# Altium footprint library PCB_Library.PcbLib: 26 footprints (part 2 of 2)
Each footprint in its own frame and in the unit in brackets; x right, y up, seen from the top. Pads: shape width x height; smd on the part's side, far side on the other; paste and mask are expansions set on the pad; w line width, h text height; cw(c..) or ccw(c..) is an arc to the next point about the centre after c.
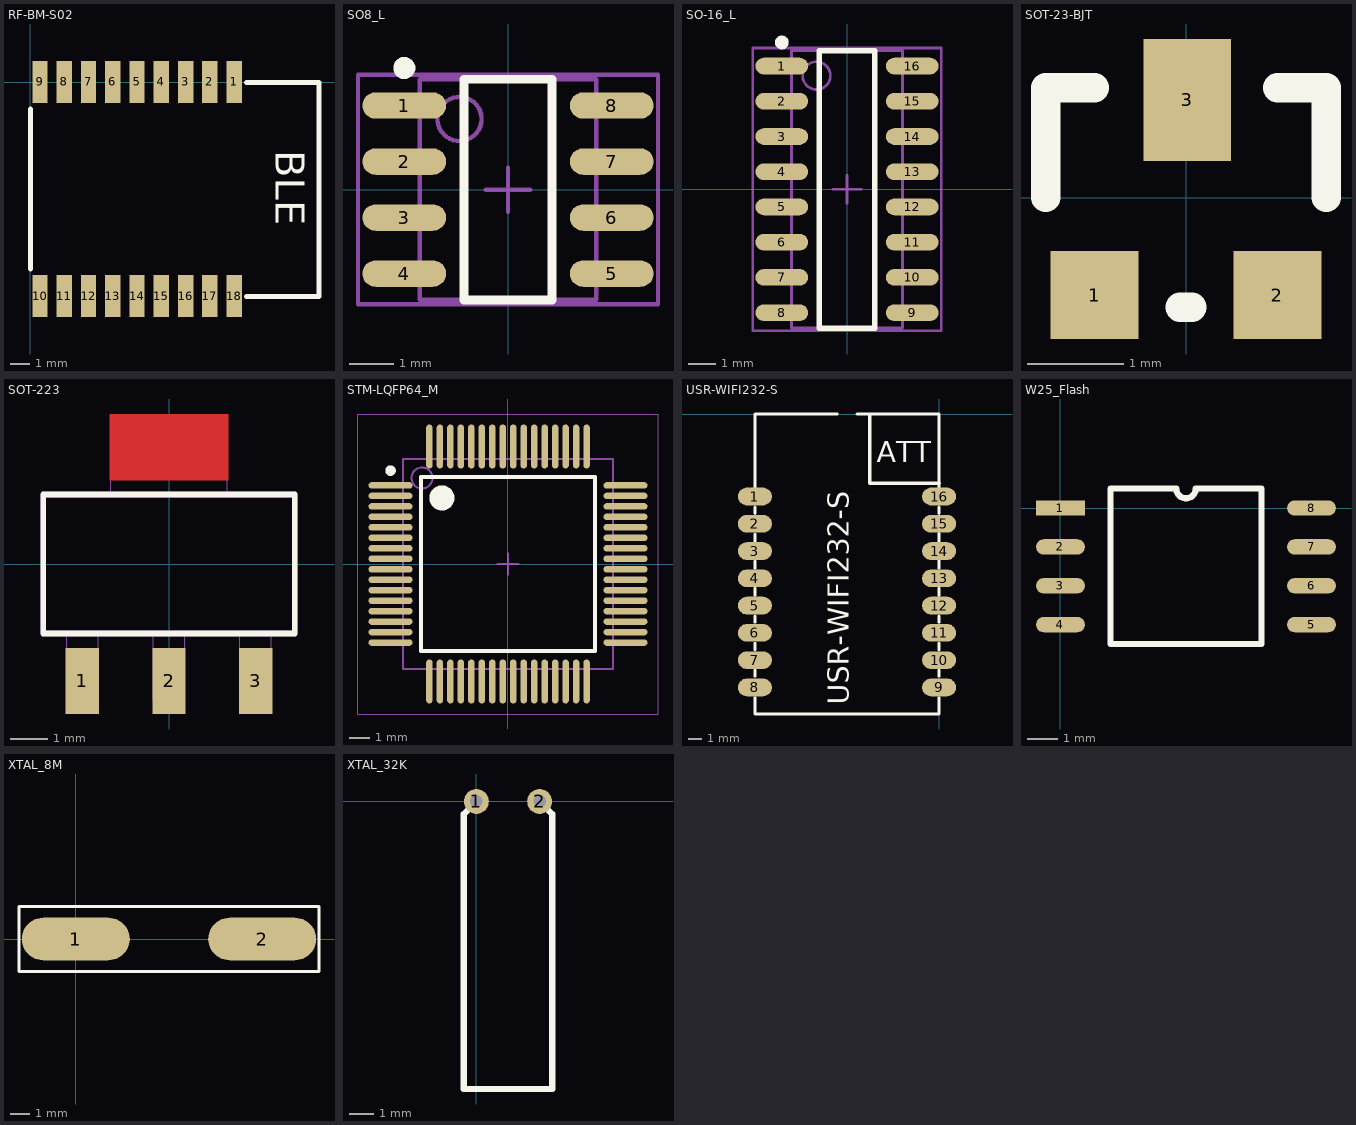
[diagram p1: the footprints below, top view; thin cyan lines are the x and y axes]

## RF-BM-S02 [mm]
pads (18):
  rect 0.8x2.2 smd: 1(10.66,0.024) 2(9.39,0.024) 3(8.12,0.024) 4(6.85,0.024) 5(5.58,0.024) 6(4.31,0.024) 7(3.04,0.024) 8(1.77,0.024) 9(0.5,0.024) 10(0.5,-11.176) 11(1.77,-11.176) 12(3.04,-11.176) 13(4.31,-11.176) 14(5.58,-11.176) 15(6.85,-11.176) 16(8.12,-11.176) 17(9.39,-11.176) 18(10.66,-11.176)
Top Overlay:
  lines w0.254: 0,-9.779 0,-1.397 ; 11.303,-11.2 15.1,-11.2 15.1,0 11.303,0
  text "BLE" at 12.827,-3.556 h1.52

## SO8_L [mm] "SOIC, 8-Leads, Body 4.9x3.9mm, Pitch 1.27mm, IPC High Density"
height 1.75
pads (8):
  oval 1.9x0.6 smd: 1(-2.35,1.905) 2(-2.35,0.635) 3(-2.35,-0.635) 4(-2.35,-1.905) 5(2.35,-1.905) 6(2.35,-0.635) 7(2.35,0.635) 8(2.35,1.905)
Top Overlay:
  circle w0.25: c-2.35,2.755 r0.125
  lines w0.2: -1,-2.5 1,-2.5 1,2.5 -1,2.5 -1,-2.5
Mechanical 13:
  circle w0.1: c-1.1,1.6 r0.5
  lines w0.1: -2,-2.5 2,-2.5 2,2.5 -2,2.5 -2,-2.5
Mechanical 15:
  lines w0.1: -0.5,0 0.5,0 ; 0,-0.5 0,0.5 ; -3.4,-2.6 3.4,-2.6 3.4,2.6 -3.4,2.6 -3.4,-2.6
3D body: height 1.75, standoff 0, extent -2,-2.5 2,2.5

## SO-16_L [mm] "SOIC, 16-Leads, Body 9.9x3.9mm, Pitch 1.27mm, IPC High Density"
height 1.75
pads (16):
  oval 1.9x0.6 smd: 1(-2.35,4.445) 2(-2.35,3.175) 3(-2.35,1.905) 4(-2.35,0.635) 5(-2.35,-0.635) 6(-2.35,-1.905) 7(-2.35,-3.175) 8(-2.35,-4.445) 9(2.35,-4.445) 10(2.35,-3.175) 11(2.35,-1.905) 12(2.35,-0.635) 13(2.35,0.635) 14(2.35,1.905) 15(2.35,3.175) 16(2.35,4.445)
Top Overlay:
  circle w0.25: c-2.35,5.295 r0.125
  lines w0.2: -1,-5 1,-5 1,5 -1,5 -1,-5
Mechanical 13:
  circle w0.1: c-1.1,4.1 r0.5
  lines w0.1: -2,-5 2,-5 2,5 -2,5 -2,-5
Mechanical 15:
  lines w0.1: -0.5,0 0.5,0 ; 0,-0.5 0,0.5 ; -3.4,-5.1 3.4,-5.1 3.4,5.1 -3.4,5.1 -3.4,-5.1
3D body: height 1.75, standoff 0, extent -2,-5 2,5

## SOT-23-BJT [mil]
pads (3):
  rect 36x36 smd: 1(-37.5,-40) 2(37.5,-40)
  rect 36x50 smd: 3(0.5,40)
Top Overlay:
  lines w12: -57.5,0 -57.5,45 -37.5,45 ; -2.5,-45 2.5,-45 ; 37.5,45 57.5,45 57.5,0

## SOT-223 [mil]
height 67
pads (3):
  rect 35x69.5 smd: 1(-91,-122.75) 2(0,-122.75) 3(91,-122.75)
Top Layer:
  region: 62,88 62,157.5 -62,157.5 -62,88
Top Overlay:
  lines w6: -132,-73 -132,73 132,73 132,-73 -132,-73
Top Paste:
  region: 62,88 62,157.5 -62,157.5 -62,88
Mechanical 1:
  lines w0: -132,-73 -132,73 132,73 132,-73 -132,-73 ; -107.5,-143.5 -74.5,-143.5 -74.5,-73 -107.5,-73 -107.5,-143.5 ; -61,73 -61,143.5 61,143.5 61,73 -61,73 ; -16.5,-143.5 16.5,-143.5 16.5,-73 -16.5,-73 -16.5,-143.5 ; 74.5,-143.5 107.5,-143.5 107.5,-73 74.5,-73 74.5,-143.5
  lines w6: -132,-73 -132,73 132,73 132,-73 -132,-73

## STM-LQFP64_M [mm] "Thin QFP, 64-Leads, Body 10x10mm, Pitch 0.5mm, IPC Low Density"
height 1.6
pads (64):
  oval 2.1x0.3 smd: 1(-5.6,3.75) 2(-5.6,3.25) 3(-5.6,2.75) 4(-5.6,2.25) 5(-5.6,1.75) 6(-5.6,1.25) 7(-5.6,0.75) 8(-5.6,0.25) 9(-5.6,-0.25) 10(-5.6,-0.75) 11(-5.6,-1.25) 12(-5.6,-1.75) 13(-5.6,-2.25) 14(-5.6,-2.75) 15(-5.6,-3.25) 16(-5.6,-3.75) 33(5.6,-3.75) 34(5.6,-3.25) 35(5.6,-2.75) 36(5.6,-2.25) 37(5.6,-1.75) 38(5.6,-1.25) 39(5.6,-0.75) 40(5.6,-0.25) 41(5.6,0.25) 42(5.6,0.75) 43(5.6,1.25) 44(5.6,1.75) 45(5.6,2.25) 46(5.6,2.75) 47(5.6,3.25) 48(5.6,3.75)
  oval 0.3x2.1 smd: 17(-3.75,-5.6) 18(-3.25,-5.6) 19(-2.75,-5.6) 20(-2.25,-5.6) 21(-1.75,-5.6) 22(-1.25,-5.6) 23(-0.75,-5.6) 24(-0.25,-5.6) 25(0.25,-5.6) 26(0.75,-5.6) 27(1.25,-5.6) 28(1.75,-5.6) 29(2.25,-5.6) 30(2.75,-5.6) 31(3.25,-5.6) 32(3.75,-5.6) 49(3.75,5.6) 50(3.25,5.6) 51(2.75,5.6) 52(2.25,5.6) 53(1.75,5.6) 54(1.25,5.6) 55(0.75,5.6) 56(0.25,5.6) 57(-0.25,5.6) 58(-0.75,5.6) 59(-1.25,5.6) 60(-1.75,5.6) 61(-2.25,5.6) 62(-2.75,5.6) 63(-3.25,5.6) 64(-3.75,5.6)
Top Overlay:
  circle w0.25: c-5.6,4.45 r0.125
  circle w0.6: c-3.15,3.15 r0.3
  lines w0.2: -4.15,-4.15 -4.15,4.15 4.15,4.15 4.15,-4.15 -4.15,-4.15
Mechanical 13:
  circle w0.1: c-4.1,4.1 r0.5
  lines w0.1: -5,-5 -5,5 5,5 5,-5 -5,-5
Mechanical 15:
  lines w0.05: -7.15,-7.15 -7.15,7.15 7.15,7.15 7.15,-7.15 -7.15,-7.15
  lines w0.1: -0.5,0 0.5,0 ; 0,-0.5 0,0.5
3D body: height 1.6, standoff 0.05, extent -5,-5 5,5

## USR-WIFI232-S [mm]
pads (16):
  oval 2.5x1.3 smd: 1(-13.5,-6.051) 2(-13.5,-8.051) 3(-13.5,-10.051) 4(-13.5,-12.051) 5(-13.5,-14.051) 6(-13.5,-16.051) 7(-13.5,-18.051) 8(-13.5,-20.051) 9(0,-20.051) 10(0,-18.051) 11(0,-16.051) 12(0,-14.051) 13(0,-12.051) 14(0,-10.051) 15(0,-8.051) 16(0,-6.051)
Top Overlay:
  lines w0.203: -13.5,-20.807 -13.5,-22.001 0,-22.001 0,-20.807 ; -13.5,-19.232 -13.5,-18.8 ; -13.5,-17.302 -13.5,-16.819 ; -13.5,-15.27 -13.5,-14.813 ; -13.5,-13.314 -13.5,-12.781 ; -13.5,-11.307 -13.5,-10.799 ; -13.5,-9.326 -13.5,-8.793 ; -13.5,-7.294 -13.5,-6.812 ; -13.5,-5.364 -13.5,-0.001 -7.468,-0.001 ; -7.997,0 -7.489,0 ; -6.015,0 -5.482,0 ; -5.944,-0.001 0,-0.001 0,-5.364 ; 0,-19.232 0,-18.8 ; 0,-17.302 0,-16.819 ; 0,-15.27 0,-14.813 ; 0,-13.314 0,-12.781 ; 0,-11.307 0,-10.799 ; 0,-11.282 0,-10.749 ; 0,-9.326 0,-8.793 ; 0,-9.275 0,-8.767 ; 0,-7.294 0,-6.812
  lines w0.254: -5.08,-0.001 -5.08,-5.08 0,-5.08
  text "USR-WIFI232-S" at -6.604,-21.336 h1.52
  text "ATT" at -4.572,-3.556 h1.52

## W25_Flash [mm]
pads (8):
  rect 1.6x0.5 smd: 1(0,0)
  oval 1.6x0.5 smd: 2(0,-1.27) 3(0,-2.54) 4(0,-3.81) 5(8.2,-3.81) 6(8.2,-2.54) 7(8.2,-1.27) 8(8.2,0)
Top Overlay:
  lines w0.2: 1.635,-4.445 1.635,0.635 3.782,0.635 ccw(c4.1,0.635) 4.417,0.635 6.565,0.635 6.565,-4.445 1.635,-4.445

## XTAL_8M [mm]
pads (2):
  rrect100% 5.5x2.178 smd: 1(0,0) 2(9.5,0)
Top Overlay:
  lines w0.152: -2.896,-1.651 12.395,-1.651 12.395,1.651 -2.896,1.651 -2.896,-1.651

## XTAL_32K [mm]
pads (2):
  round 1 hole 0.5: 1(0,0) 2(2.54,0)
Top Overlay:
  lines w0.254: 0,0 -0.508,-0.508 -0.508,-11.557 3.048,-11.557 3.048,-0.508 2.54,0